# Altium footprint library PowerPAK1212-8.PcbLib: 1 footprints
Each footprint in its own frame and in the unit in brackets; x right, y up, seen from the top. Pads: shape width x height; smd on the part's side, far side on the other; paste and mask are expansions set on the pad; w line width, h text height; cw(c..) or ccw(c..) is an arc to the next point about the centre after c.
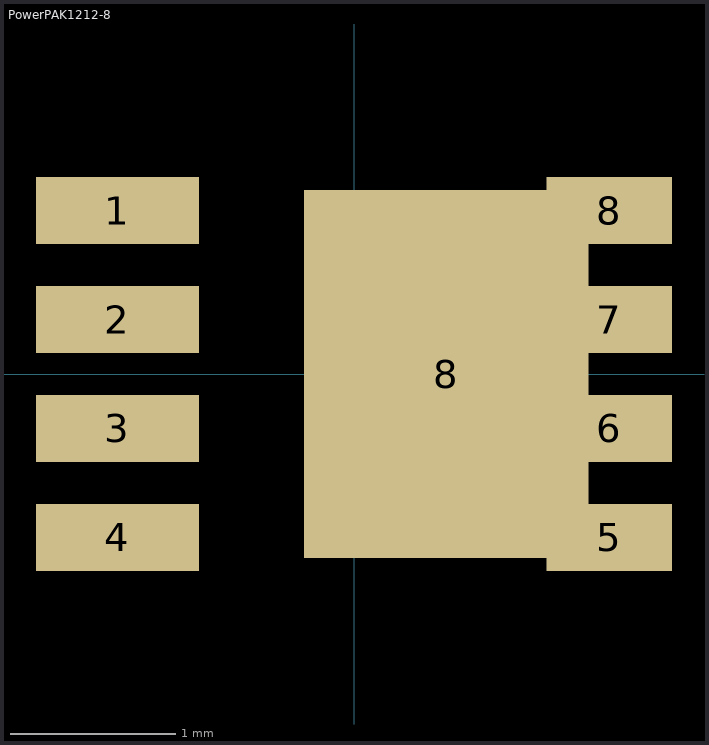
[diagram p0: the footprint, top view; thin cyan lines are the x and y axes]

## PowerPAK1212-8 [mil]
pads (9):
  rect 39x16 smd: 1(-56.5,39) 2(-56.5,13) 3(-56.5,-13) 4(-56.5,-39)
  rect 30x16 smd: 5(61,-39) 6(61,-13) 7(61,13) 8(61,39)
  rect 68x88 smd: 8(22,0)
3D body: height 44.09, standoff 0, extent -66.93,-66.93 66.93,66.93